# Altium footprint library PTC Resettable Fuses.PcbLib: 1 footprints
Each footprint in its own frame and in the unit in brackets; x right, y up, seen from the top. Pads: shape width x height; smd on the part's side, far side on the other; paste and mask are expansions set on the pad; w line width, h text height; cw(c..) or ccw(c..) is an arc to the next point about the centre after c.
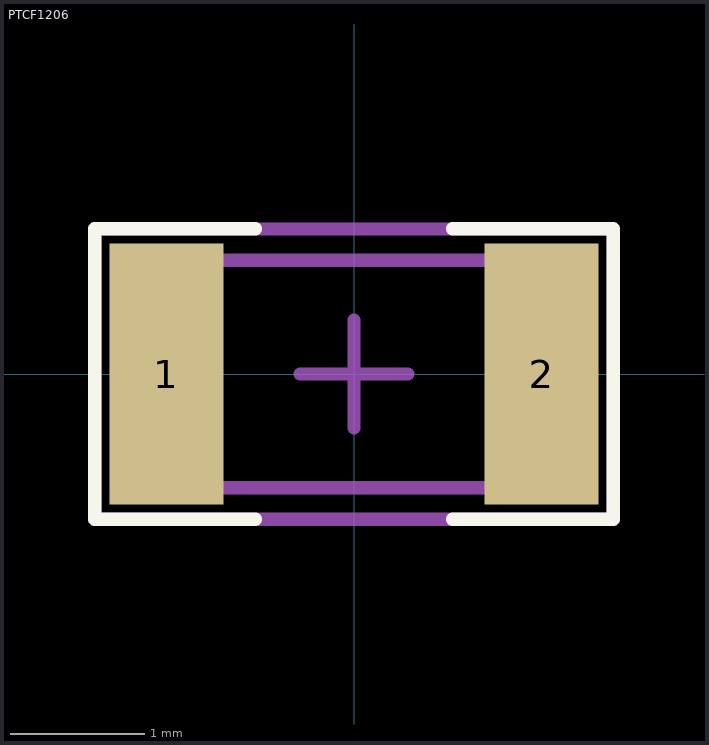
[diagram p0: the footprint, top view; thin cyan lines are the x and y axes]

## PTCF1206 [mm] "PTC Fuse 1206 Package"
pads (2):
  rect 0.85x1.95 smd mask+0.05: 1(-1.4,0) 2(1.4,0)
Top Overlay:
  lines w0.1: -0.735,-1.085 -1.935,-1.085 -1.935,1.085 -0.735,1.085 ; 0.735,-1.085 1.935,-1.085 1.935,1.085 0.735,1.085
Top 3D Body:
  lines w0.1: -1.7,-0.85 1.7,-0.85 1.7,0.85 -1.7,0.85 -1.7,-0.85
Top Component Center:
  lines w0.1: -0.4,0 0.4,0 ; 0,-0.4 0,0.4 ; -1.935,-1.085 -1.935,1.085 1.935,1.081 1.935,1.081 1.935,-1.085 -1.934,-1.085 -1.935,-1.085
Top Designator:
  lines w0.1: 1.934,1.081 1.935,1.081 ; 1.935,1.081 1.935,-1.085 -1.934,-1.085 -1.936,-1.085 -1.936,1.085 1.934,1.081
  text ".Designator" at -0.6,-0.133 h0.5
3D body "0ZCJ0035FF2G.step": height 0.51, standoff 0.01, extent -1.7,-0.85 1.7,0.85